# Altium footprint library Modules.PcbLib: 7 footprints
Each footprint in its own frame and in the unit in brackets; x right, y up, seen from the top. Pads: shape width x height; smd on the part's side, far side on the other; paste and mask are expansions set on the pad; w line width, h text height; cw(c..) or ccw(c..) is an arc to the next point about the centre after c.
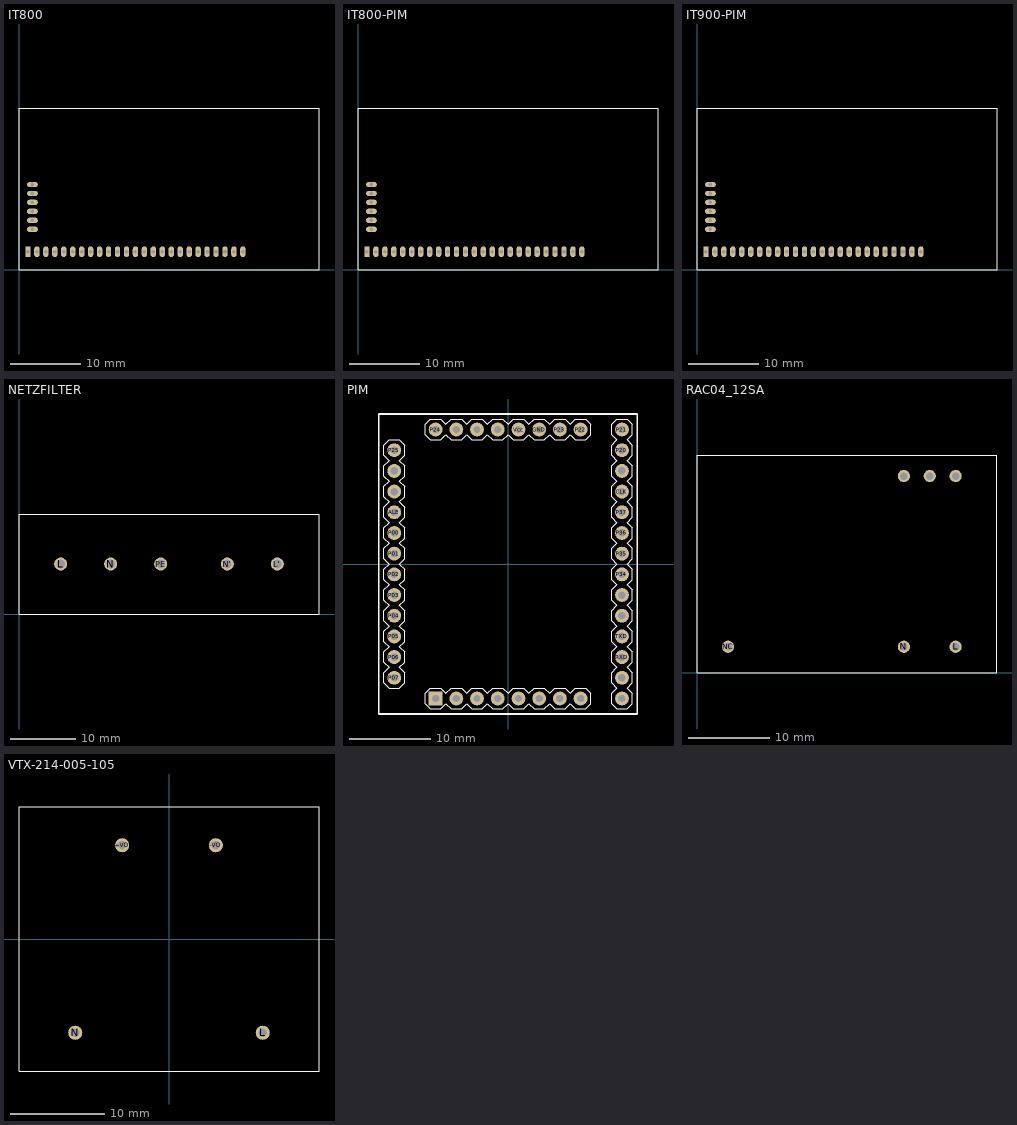
[diagram p0: the footprints below, top view; thin cyan lines are the x and y axes]

## IT800 [mil] "IT800"
pads (31):
  rect 30x60 hole 20: 1(50,100)
  oval 30x60 hole 20: 2(100,100) 3(150,100) 4(200,100) 5(250,100) 6(300,100) 7(350,100) 8(400,100) 9(450,100) 10(500,100) 11(550,100) 12(600,100) 13(650,100) 14(700,100) 15(750,100) 16(800,100) 17(850,100) 18(900,100) 19(950,100) 20(1000,100) 21(1050,100) 22(1100,100) 23(1150,100) 24(1200,100) 25(1250,100)
  oval 60x30 hole 20: 26(75,225) 27(75,275) 28(75,325) 29(75,375) 30(75,425) 31(75,475)
Top Overlay:
  lines w5: 0,0 1675,0 1675,900 0,900 0,0

## IT800-PIM [mil] "IT800"
pads (31):
  rect 30x60 hole 20: 1(50,100)
  oval 30x60 hole 20: 2(100,100) 3(150,100) 4(200,100) 5(250,100) 6(300,100) 7(350,100) 8(400,100) 9(450,100) 10(500,100) 11(550,100) 12(600,100) 13(650,100) 14(700,100) 15(750,100) 16(800,100) 17(850,100) 18(900,100) 19(950,100) 20(1000,100) 21(1050,100) 22(1100,100) 23(1150,100) 24(1200,100) 25(1250,100)
  oval 60x30 hole 20: 26(75,225) 27(75,275) 28(75,325) 29(75,375) 30(75,425) 31(75,475)
Top Overlay:
  lines w5: 0,0 1675,0 1675,900 0,900 0,0
3D body: height 354.33, standoff 275.59, extent 0,0 1675,900

## IT900-PIM [mil] "IT900"
pads (31):
  rect 30x60 hole 20: 1(50,100)
  oval 30x60 hole 20: 2(100,100) 3(150,100) 4(200,100) 5(250,100) 6(300,100) 7(350,100) 8(400,100) 9(450,100) 10(500,100) 11(550,100) 12(600,100) 13(650,100) 14(700,100) 15(750,100) 16(800,100) 17(850,100) 18(900,100) 19(950,100) 20(1000,100) 21(1050,100) 22(1100,100) 23(1150,100) 24(1200,100) 25(1250,100)
  oval 60x30 hole 20: 26(75,225) 27(75,275) 28(75,325) 29(75,375) 30(75,425) 31(75,475)
Top Overlay:
  lines w5: 0,0 1675,0 1675,900 0,900 0,0
3D body: height 354.33, standoff 275.59, extent 0,0 1675,900

## NETZFILTER [mil] "NETZFILTER"
pads (5):
  round 78 hole 52: L(250,300) L'(1550,300) N(550,300) N'(1250,300) PE(850,300)
Top Overlay:
  lines w5: 0,0 1800,0 1800,600 0,600 0,0
3D body: height 1181.1, standoff 59.06, extent 0,0 1800,600

## PIM [mm] "DAU-PIM-1"
pads (42):
  rect 1.7x1.7 hole 0.914: ADC0(-8.896,-16.51)
  round 1.7 hole 0.914: ADC1(-6.356,-16.51) ADC2(-3.816,-16.51) ADC3(-1.276,-16.51) ADC4(6.356,-16.51) ADC5(8.896,-16.51) ADC6(13.976,-16.51) ADC7(13.976,-13.97) ALE(-13.976,6.35) CLK(13.976,8.89) DAC0(1.276,-16.51) DAC1(3.816,-16.51) GND(3.816,16.51) GND2(-3.816,16.51) GND3(-6.356,16.51) INT0(13.976,-6.35) MISO(13.976,-3.81) MOSI(13.976,11.43) P00(-13.976,3.81) P01(-13.976,1.27) P02(-13.976,-1.27) P03(-13.976,-3.81) P04(-13.976,-6.35) P05(-13.976,-8.89) P06(-13.976,-11.43) P07(-13.976,-13.97) P20(13.976,13.97) P21(13.976,16.51) P22(8.896,16.51) P23(6.356,16.51) P24(-8.896,16.51) P25(-13.976,13.97) P34(13.976,-1.27) P35(13.976,1.27) P36(13.976,3.81) P37(13.976,6.35) PWM0(-13.976,11.43) PWM1(-13.976,8.89) RXD(13.976,-11.43) TXD(13.976,-8.89) Vcc(1.276,16.51) Vcc1(-1.276,16.51)
Top Overlay:
  drawing of 264 lines, arcs and shapes, not listed

## RAC04_12SA [mm] "RAC04_12SA"
height 17.5
pads (6):
  round 1.5 hole 0.914: +VO(25.4,24.13) GND(28.575,24.13) L(31.75,3.175) N(25.4,3.175) NC(3.81,3.175) NC1(31.75,24.13)
Top Overlay:
  lines w0.127: 0,0 36.83,0 36.83,26.67 0,26.67 0,0
3D body: height 17.5, standoff 0.2, extent 0,0 36.83,26.67

## VTX-214-005-105 [mm] "VTX-214-005-105"
height 17.5
pads (4):
  round 1.5 hole 0.914: +VO(-5,10) -VO(5,10) L(10,-10) N(-10,-10)
Top Overlay:
  lines w0.127: -16.002,-14.097 16.002,-14.097 16.002,14.097 -16.002,14.097 -16.002,-14.097
3D body: height 17.5, standoff 0.2, extent -16.002,-14.097 16.002,14.097